# Altium schematic symbol library TagConnect_TC2030.SchLib: 1 symbol
Pins are listed as number, name and electrical type; pins without a type are passive.

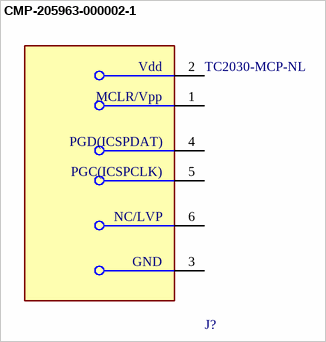
[diagram p0: symbol CMP-205963-000002-1]

## CMP-205963-000002-1
designator J?, comment TC2030-MCP-NL
CABLE TAG-CONNECT IN-CIRCUIT; RoHS Compliant: Yes; Series: -; Reach SVHC Compliant: Yes; Package Quantity: 1; Lead Free: Lead Free
footprint FP-TC2030-MCP-NL-MFG
pins: 1 MCLR/Vpp, 2 Vdd, 3 GND, 4 PGD(ICSPDAT), 5 PGC(ICSPCLK), 6 NC/LVP